# EAGLE library part M03X2 (library Connectors)
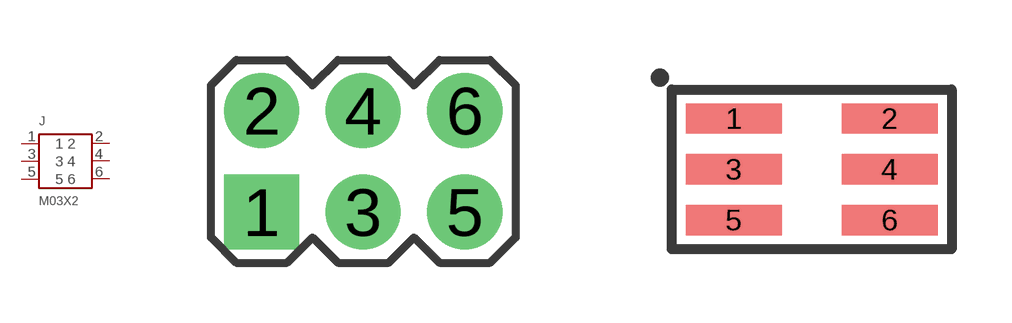
[diagram p1: symbol with the pads of M03X2; footprints M03X2, M03X2-50MIL_SMD]

Designator prefix J

## M03X2-PTH  [M03X2]
1  1
2  2
3  3
4  4
5  5
6  6

## M03X2-SMD  [M03X2-50MIL_SMD]
Pads as for M03X2

## M03X2-PADS  [M03X2_PADS]
Pads as for M03X2

## M03X2-100MIL_SMD  [M03X2-100MIL_SMD]
Pads as for M03X2

## Footprint M03X2 (pad centres in mm)
drill 1.016 pad 1.88 square: 1 -2.54,-1.27
drill 1.016 pad 1.88: 2 -2.54,1.27; 3 0,-1.27; 4 0,1.27; 5 2.54,-1.27; 6 2.54,1.27

## Footprint M03X2-50MIL_SMD (pad centres in mm)
smd 2.4 x 0.76: 1 -1.95,1.27; 2 1.95,1.27; 3 -1.95,0; 4 1.95,0; 5 -1.95,-1.27; 6 1.95,-1.27

## Footprint M03X2_PADS (pad centres in mm)
smd 1 x 1: 1 -2.54,-1.27; 2 -2.54,1.27; 3 0,-1.27; 4 0,1.27; 5 2.54,-1.27; 6 2.54,1.27

## Footprint M03X2-100MIL_SMD (pad centres in mm)
smd 1 x 2: 1 -2.54,-4.875; 2 -2.54,-8.375; 3 0,-4.875; 4 0,-8.375; 5 2.54,-4.875; 6 2.54,-8.375